# Altium integrated library SMAJ24CA.IntLib: 1 symbol
Pins are listed as number, name and electrical type; pins without a type are passive.

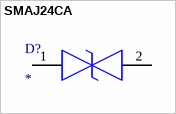
[diagram p0: symbol SMAJ24CA]

## SMAJ24CA
designator D?
TVS Diode (Bi-directional); Manufacturer_Name: LITTELFUSE; Manufacturer_Part_Number: SMAJ24CA; Description: Littelfuse SMAJ24CA; Datasheet Link: http://www.littelfuse.com/~/media/electronics/datasheets/tvs_diodes/littelfuse_tvs_diode_smaj_datasheet.pdf.pdf; Height: 2.29mm; Mouser Part Number: 576-SMAJ24CA; Mouser Price/Stock: https://www.mouser.com/Search/Refine.aspx?Keyword=576-SMAJ24CA; RS Part Number: 1719613P; RS Price/Stock: http://uk.rs-online.com/web/p/products/1719613P
footprint DIONM5026X229N
pins: 1 K, 2 A